# EAGLE library part VREG_SWITCHING_LMZ21701 (library PiB_ic_power)
LMZ217 Nano Series Switching Power IC
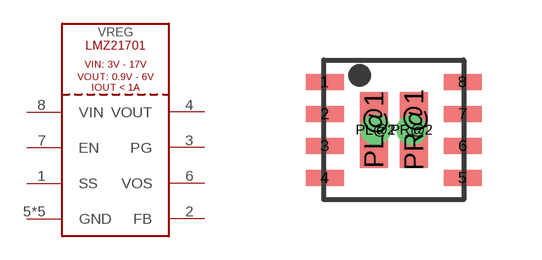
[diagram p2: symbol with the pads of SIL0008E-1.75; footprint SIL0008E-1.75]

Designator prefix VREG

## VREG_SWITCHING_LMZ21701_LMZ21701_1A-VADJ (DATASHEET: http://www.ti.com/lit/ds/symlink/lmz21701.pdf; DIST: Digikey; DISTLINK: https://www.digikey.com/products/en?keywords=296-38545-1-ND; DISTPN: 296-38545-1-ND; MFR: Texas Instruments; MPN: LMZ21701SILT; VALUE: LMZ21701 1A/VADJ)  [SIL0008E-1.75]
1  SS
2  FB
3  PG
4  VOUT
5  GND
6  VOS
7  EN
8  VIN
PL@1  GND
PL@2  GND
PR@1  GND
PR@2  GND

## Footprint SIL0008E-1.75 (pad centres in mm)
smd 0.95 x 0.4: 1 -1.725,1.2; 2 -1.725,0.4; 3 -1.725,-0.4; 4 -1.725,-1.2; 5 1.725,-1.2; 6 1.725,-0.4; 7 1.725,0.4; 8 1.725,1.2
smd 0.7 x 1.9: PL@1 -0.5,0; PR@1 0.5,0
drill 0.254 pad 0.381: PL@2 -0.45,0; PR@2 0.45,0